# Altium schematic symbol library M18_lcq_20140714.SCHLIB: 14 symbols
Pins are listed as number, name and electrical type; pins without a type are passive.

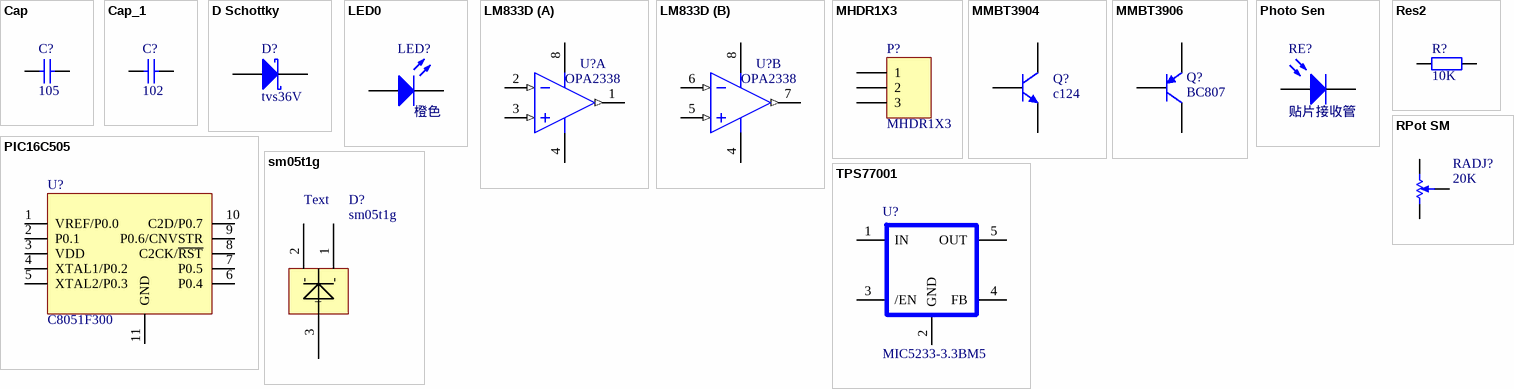
[diagram p0: symbols Cap to TPS77001]

## Cap
designator C?, comment value 105  (hidden comment: C106)
Capacitor; Published: 8-Jun-2000; LatestRevisionDate: 17-Jul-2002; LatestRevisionNote: Re-released for DXP Platform.; PackageReference: RAD-0.3; Publisher: Altium Limited
footprint RAD-0.3 (Capacitor; 2 Leads)
footprint VP32-3.2 (Capacitor, Ceramic, Thru-Hole, Dipped Radial; Body 5.1 x 3.2 mm (WxT) Pin Spacing 2.54 mm (typ))
footprint VP45-3.2 (Capacitor, Ceramic, Thru-Hole, Dipped Radial; Body 7.8 x 3.2 mm (WxT) Pin Spacing 5.08 mm (typ))
simulation model CAP (Capacitor)
signal-integrity model Cap
footprint C0805 (Chip Capacitor; Body 2.0 x 1.2 mm (LxW typ))
pins: 1, 2

## Cap_1
designator C?, comment value 102  (hidden comment: C104)
Capacitor; Published: 8-Jun-2000; LatestRevisionDate: 17-Jul-2002; LatestRevisionNote: Re-released for DXP Platform.; PackageReference: RAD-0.3; Publisher: Altium Limited
footprint RAD-0.3 (Capacitor; 2 Leads)
footprint VP32-3.2 (Capacitor, Ceramic, Thru-Hole, Dipped Radial; Body 5.1 x 3.2 mm (WxT) Pin Spacing 2.54 mm (typ))
footprint VP45-3.2 (Capacitor, Ceramic, Thru-Hole, Dipped Radial; Body 7.8 x 3.2 mm (WxT) Pin Spacing 5.08 mm (typ))
simulation model CAP (Capacitor)
signal-integrity model Cap
footprint C0603
pins: 1, 2

## D Schottky
designator D?, comment tvs36V
Schottky Diode; Published: 8-Jun-2000; LatestRevisionDate: 17-Jul-2002; LatestRevisionNote: Re-released for DXP Platform.; PackageReference: SMB; Publisher: Altium Limited; Code_JEDEC: DO-214-AA
footprint SMB
footprint D1206
footprint D1206
footprint 3216A
pins: 1 A, 2 K
2 alternate drawings of the same symbol

## LED0
designator LED?, comment 橙色
Typical INFRARED GaAs LED; Published: 8-Jun-2000; LatestRevisionDate: 08-Jul-2005; LatestRevisionNote: Mech Layer 1 removed.; PackageReference: LED-0; Publisher: Altium Limited
footprint d0603
simulation model LED0 (Diode)
pins: 1 A, 2 K

## LM833D
designator U?, comment OPA2338
Dual Low Noise, Audio Amplifier; Published: 17-Jul-2002; LatestRevisionDate: 13-Apr-2006; LatestRevisionNote: IPC-7351 Footprint Added.; DatasheetVersion: 1996; PackageVersion: 1996; PackageReference: 751-05; Publisher: Altium Limited; PackageDescription: 8-Pin Small Outline Integrated Circuit 1.27 mm Pitch; Code_JEDEC: MS-012-AA; Code_IPC: SOIC127P600-8; ComponentLink1Description: Datasheet; ComponentLink1URL: http://www.onsemi.com/pub/Collateral/LM833-D.PDF
footprint SOT23-8
footprint 751-05_L (SOIC, 8-Leads, Body 4.9x3.9mm, Pitch 1.27mm, IPC High Density)
footprint 751-05_M (SOIC, 8-Leads, Body 4.9x3.9mm, Pitch 1.27mm, IPC Low Density)
3D model 751-05 (8-Pin Small Outline Integrated Circuit 1.27 mm Pitch)
pins on every part: 4 VEE (power), 8 VCC (power)
part A pins: 1 OUT (out), 2 IN- (in), 3 IN+ (in)
part B pins: 5 IN+ (in), 6 IN- (in), 7 OUT (out)

## MHDR1X3
designator P?
Header, 3-Pin; LatestRevisionDate: 17-Jul-2002; LatestRevisionNote: Re-released for DXP Platform.; Publisher: Altium Limited
footprint MHDR1X3 (Connector; Header; 3 Position)
signal-integrity model Connector
pins: 1, 2, 3

## MMBT3904
designator Q?, comment c124
NPN Switching Transistor; Published: 17-Sep-2003; DatasheetVersion: 13-May-2002; PackageVersion: May-1999; PackageReference: SOT23; Publisher: Altium Limited; PackageDescription: SOT-23; 3 Leads; Body 3.0 x 2.5 mm, inc. leads (LxW max); ComponentLink1Description: Manufacturer Link; ComponentLink1URL: http://www.semiconductors.philips.com/; ComponentLink2Description: Datasheet; ComponentLink2URL: http://www.semiconductors.philips.com/acrobat/datasheets/MMBT3904_4.pdf
footprint SOT23A (SOT-23; 3 Leads; Body 3.0 x 2.5 mm, inc. leads (LxW max))
pins: 1 B, 2 E, 3 C
2 alternate drawings of the same symbol

## MMBT3906
designator Q?, comment BC807
PNP Switching Transistor; Published: 17-Sep-2003; DatasheetVersion: 11-Apr-2000; PackageVersion: May-1999; PackageReference: SOT23; Publisher: Altium Limited; PackageDescription: SOT-23; 3 Leads; Body 3.0 x 2.5 mm, inc. leads (LxW max); ComponentLink1Description: Manufacturer Link; ComponentLink1URL: http://www.semiconductors.philips.com/; ComponentLink2Description: Datasheet; ComponentLink2URL: http://www.semiconductors.philips.com/acrobat/datasheets/MMBT3906_2.pdf
footprint SOT23 (SOT-23; 3 Leads; Body 3.0 x 2.5 mm, inc. leads (LxW max))
simulation model QMMBT3906 (PNP)
signal-integrity model MMBT3906
footprint SOT23A (SOT-23; 3 Leads; Body 3.0 x 2.5 mm, inc. leads (LxW max))
pins: 1 B, 2 E, 3 C

## Photo Sen
designator RE?, comment 贴片接收管
Photosensitive Diode; Published: 24-Mar-1999; LatestRevisionDate: 17-Jul-2002; LatestRevisionNote: Re-released for DXP Platform.; PackageReference: PIN2; Publisher: Altium Limited
footprint LED-1210
pins: 1 A, 2 K

## PIC16C505
designator U?, comment C8051F300
footprint IC3-3-14P (Footprint not found)
footprint IC*
pins: 1 VREF/P0.0, 2 P0.1, 3 VDD, 4 XTAL1/P0.2, 5 XTAL2/P0.3, 6 P0.4, 7 P0.5, 8 C2CK/~{RST}, 9 P0.6/CNVSTR, 10 C2D/P0.7, 11 GND

## Res2
designator R?, comment 10K
Resistor; Published: 8-Jun-2000; LatestRevisionDate: 17-Jul-2002; LatestRevisionNote: Re-released for DXP Platform.; PackageReference: AXIAL-0.4; Publisher: Altium Limited; Value: 10K
footprint R0603-A
simulation model RESISTOR (Resistor)
signal-integrity model Res
pins: 1, 2

## RPot SM
designator RADJ?, comment 20K
Square Trimming Potentiometer; Published: 17-Dec-2003; DatasheetDocument: Oct-2003; PackageReference: POT4MM-2; Publisher: Altium Limited; ComponentLink1Description: Manufacturer Link; ComponentLink1URL: http://bourns.com/2/search.html
footprint POT4MM-2 (Square Trimming Potentiometer)
pins: CCW -, CW +, W
1 alternate drawing of the same symbol

## sm05t1g
designator D?
footprint SOT23A (SOT-23; 3 Leads; Body 3.0 x 2.5 mm, inc. leads (LxW max))
pins: 1 -, 2 -, 3 +
text: Text

## TPS77001
designator U?, comment MIC5233-3.3BM5
footprint SOT-457
pins: 1 IN, 2 GND, 3 /EN, 4 FB, 5 OUT